# EAGLE library part ICL7660A (library usb)
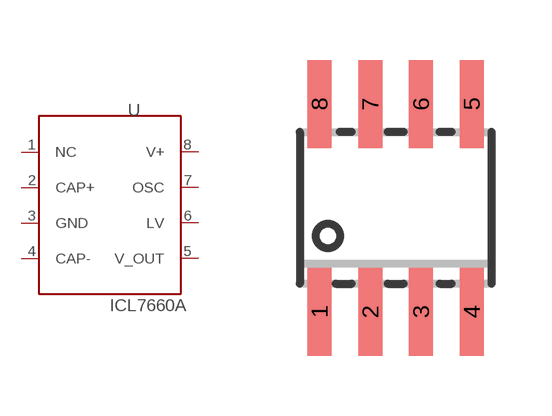
[diagram p12: symbol with the pads of SO08; footprint SO08]

Designator prefix U

## ICL7660A  [SO08]
1  NC
2  CAP+
3  GND
4  CAP-
5  V_OUT
6  LV
7  OSC
8  V+

## Footprint SO08 (pad centres in mm)
SMALL OUTLINE INTEGRATED CIRCUIT body 3.9 mm/JEDEC MS-012AA
smd 0.6 x 2.2: 1 -1.905,-2.6; 2 -0.635,-2.6; 3 0.635,-2.6; 4 1.905,-2.6; 5 1.905,2.6; 6 0.635,2.6; 7 -0.635,2.6; 8 -1.905,2.6